# EAGLE library part VNQ5E160K-E (library cpio)
Quad channel high side driver for automotive applications
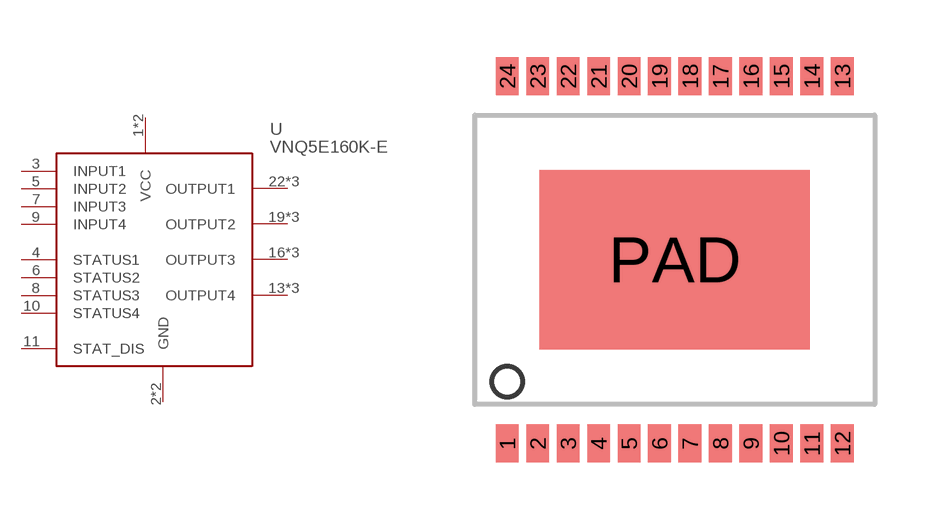
[diagram p0: symbol with the pads of POWERSSO-24; footprint POWERSSO-24]

Designator prefix -

## VNQ5E160K-E  [POWERSSO-24]
1  VCC  pwr
2  GND  pwr
3  INPUT1  in
4  STATUS1  in
5  INPUT2  in
6  STATUS2  in
7  INPUT3  in
8  STATUS3  in
9  INPUT4  in
10  STATUS4  in
11  STAT_DIS
12  VCC  pwr
13  OUTPUT4  out
14  OUTPUT4  out
15  OUTPUT4  out
16  OUTPUT3  out
17  OUTPUT3  out
18  OUTPUT3  out
19  OUTPUT2  out
20  OUTPUT2  out
21  OUTPUT2  out
22  OUTPUT1  out
23  OUTPUT1  out
24  OUTPUT1  out
PAD  GND  pwr

## Footprint POWERSSO-24 (pad centres in mm)
smd 0.6 x 1: 1 -4.4,-4.825; 2 -3.6,-4.825; 3 -2.8,-4.825; 4 -2,-4.825; 5 -1.2,-4.825; 6 -0.4,-4.825; 7 0.4,-4.825; 8 1.2,-4.825; 9 2,-4.825; 10 2.8,-4.825; 11 3.6,-4.825; 12 4.4,-4.825; 13 4.4,4.825; 14 3.6,4.825; 15 2.8,4.825; 16 2,4.825; 17 1.2,4.825; 18 0.4,4.825; 19 -0.4,4.825; 20 -1.2,4.825; 21 -2,4.825; 22 -2.8,4.825; 23 -3.6,4.825; 24 -4.4,4.825
smd 7.1 x 4.7: PAD 0,0